# Altium schematic symbol library Varistor.SchLib: 1 symbol
Pins are listed as number, name and electrical type; pins without a type are passive.

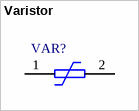
[diagram p0: symbol Varistor]

## Varistor
designator VAR?  (value not drawn)
MF: Bourns; MP: ZOV-07D470K; Package: Disc-7 Bourns; DigiKey-Purchase-URL: https://snapeda.com/shop?store=DigiKey&id=1301146; Availability: Unavailable; Price: None; SnapEDA_Link: https://www.snapeda.com/parts/MOV-07D470K/Bourns/view-part/1301146/?ref=snap
pins: 1, 2